# Altium footprint library NORDIC_Footprints.PcbLib: 3 footprints
Each footprint in its own frame and in the unit in brackets; x right, y up, seen from the top. Pads: shape width x height; smd on the part's side, far side on the other; paste and mask are expansions set on the pad; w line width, h text height; cw(c..) or ccw(c..) is an arc to the next point about the centre after c.
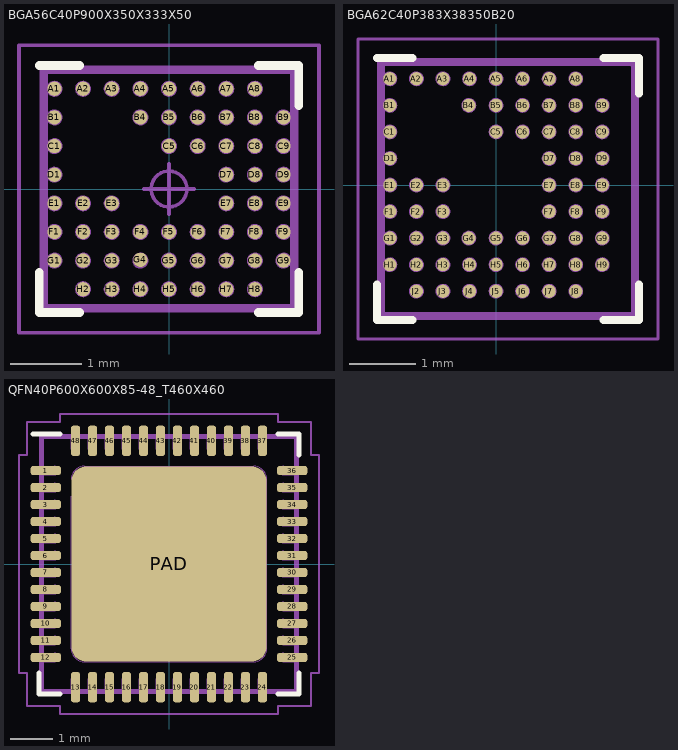
[diagram p0: the footprints below, top view; thin cyan lines are the x and y axes]

## BGA56C40P900X350X333X50 [mm] "IPC-7351C CDAB WLCSP"
height 50
pads (56):
  round 0.2 smd: A1(-1.6,1.4) A2(-1.2,1.4) A3(-0.8,1.4) A4(-0.4,1.4) A5(0,1.4) A6(0.4,1.4) A7(0.8,1.4) A8(1.2,1.4) B1(-1.6,1) B4(-0.4,1) B5(0,1) B6(0.4,1) B7(0.8,1) B8(1.2,1) B9(1.6,1) C1(-1.6,0.6) C5(0,0.6) C6(0.4,0.6) C7(0.8,0.6) C8(1.2,0.6) C9(1.6,0.6) D1(-1.6,0.2) D7(0.8,0.2) D8(1.2,0.2) D9(1.6,0.2) E1(-1.6,-0.2) E2(-1.2,-0.2) E3(-0.8,-0.2) E7(0.8,-0.2) E8(1.2,-0.2) E9(1.6,-0.2) F1(-1.6,-0.6) F2(-1.2,-0.6) F3(-0.8,-0.6) F4(-0.4,-0.6) F5(0,-0.6) F6(0.4,-0.6) F7(0.8,-0.6) F8(1.2,-0.6) F9(1.6,-0.6) G1(-1.6,-1) G2(-1.2,-1) G3(-0.8,-1) G4(-0.4,-0.99) G5(0,-1) G6(0.4,-1) G7(0.8,-1) G8(1.2,-1) G9(1.6,-1) H2(-1.2,-1.4) H3(-0.8,-1.4) H4(-0.4,-1.4) H5(0,-1.4) H6(0.4,-1.4) H7(0.8,-1.4) H8(1.2,-1.4)
Top Overlay:
  lines w0.12: -1.81,-1.16 -1.81,-1.725 -1.245,-1.725 ; -1.81,1.725 -1.245,1.725 ; 1.245,-1.725 1.81,-1.725 1.81,-1.16 ; 1.245,1.725 1.81,1.725 1.81,1.16
Mechanical 11:
  lines w0.12: -1.75,1.65 -1.725,1.675 ; 1.725,1.675 1.75,1.65 ; 1.75,-1.665 -1.75,-1.665 -1.75,1.665 1.75,1.665 1.75,-1.665 ; 1.75,-1.665 1.75,-1.665
Mechanical 12:
  circle w0.025: c-0.8,-0.2 r0.1
  circle w0.025: c-1.2,-1 r0.1
  circle w0.025: c-1.2,-0.6 r0.1
  circle w0.025: c-1.2,-0.2 r0.1
  circle w0.025: c-0.8,-1 r0.1
  circle w0.025: c-0.8,-0.6 r0.1
  circle w0.025: c-0.4,-1 r0.1
  circle w0.025: c-0.4,-0.6 r0.1
  circle w0.025: c-0.4,1 r0.1
  circle w0.025: c0,-1 r0.1
  circle w0.025: c0,-0.6 r0.1
  circle w0.025: c0,0.6 r0.1
  circle w0.025: c0,1 r0.1
  circle w0.025: c0.4,-1 r0.1
  circle w0.025: c0.4,-0.6 r0.1
  circle w0.025: c0.4,0.6 r0.1
  circle w0.025: c0.4,1 r0.1
  circle w0.025: c0.8,-1 r0.1
  circle w0.025: c0.8,-0.6 r0.1
  circle w0.025: c0.8,-0.2 r0.1
  circle w0.025: c0.8,0.2 r0.1
  circle w0.025: c0.8,0.6 r0.1
  circle w0.025: c0.8,1 r0.1
  circle w0.025: c1.2,-1 r0.1
  circle w0.025: c1.2,-0.6 r0.1
  circle w0.025: c1.2,-0.2 r0.1
  circle w0.025: c1.2,0.2 r0.1
  circle w0.025: c1.2,0.6 r0.1
  circle w0.025: c1.2,1 r0.1
  circle w0.025: c1.6,1 r0.1
  circle w0.025: c1.6,0.6 r0.1
  circle w0.025: c1.6,0.2 r0.1
  circle w0.025: c1.6,-0.2 r0.1
  circle w0.025: c1.6,-0.6 r0.1
  circle w0.025: c1.6,-1 r0.1
  circle w0.025: c-1.6,1 r0.1
  circle w0.025: c-1.6,0.6 r0.1
  circle w0.025: c-1.6,0.2 r0.1
  circle w0.025: c-1.6,-0.2 r0.1
  circle w0.025: c-1.6,-0.6 r0.1
  circle w0.025: c-1.6,-1 r0.1
  circle w0.025: c1.2,1.4 r0.1
  circle w0.025: c0.8,1.4 r0.1
  circle w0.025: c0.4,1.4 r0.1
  circle w0.025: c0,1.4 r0.1
  circle w0.025: c-0.4,1.4 r0.1
  circle w0.025: c-0.8,1.4 r0.1
  circle w0.025: c-1.2,1.4 r0.1
  circle w0.025: c-1.2,-1.4 r0.1
  circle w0.025: c-0.8,-1.4 r0.1
  circle w0.025: c-0.4,-1.4 r0.1
  circle w0.025: c0,-1.4 r0.1
  circle w0.025: c0.4,-1.4 r0.1
  circle w0.025: c0.8,-1.4 r0.1
  circle w0.025: c1.2,-1.4 r0.1
  circle w0.025: c-1.6,1.4 r0.1
  lines w0.025: -1.75,-1.665 -1.75,1.665 1.75,1.665 1.75,-1.665 -1.75,-1.665
Mechanical 15:
  circle w0.05: c0,0 r0.25
  lines w0.05: -0.35,0 0.35,0 ; 0,-0.35 0,0.35 ; -2.095,-2.01 2.095,-2.01 2.095,2.01 -2.095,2.01 -2.095,-2.01
Mechanical 16:
  text "'.Designator'" at 0,0 h1.2

## BGA62C40P383X38350B20 [mm] "IPC-7351C CFAC WLCSP package"
height 50
pads (62):
  round 0.2 smd: A1(-1.6,1.6) A2(-1.2,1.6) A3(-0.8,1.6) A4(-0.4,1.6) A5(0,1.6) A6(0.4,1.6) A7(0.8,1.6) A8(1.2,1.6) B1(-1.6,1.2) B4(-0.41,1.2) B5(0,1.2) B6(0.4,1.2) B7(0.8,1.2) B8(1.2,1.2) B9(1.6,1.2) C1(-1.6,0.8) C5(0,0.8) C6(0.4,0.8) C7(0.8,0.8) C8(1.2,0.8) C9(1.6,0.8) D1(-1.6,0.4) D7(0.8,0.4) D8(1.2,0.4) D9(1.6,0.4) E1(-1.6,0) E2(-1.2,0) E3(-0.8,0) E7(0.8,0) E8(1.2,0) E9(1.6,0) F1(-1.6,-0.4) F2(-1.2,-0.4) F3(-0.8,-0.4) F7(0.8,-0.4) F8(1.2,-0.4) F9(1.6,-0.4) G1(-1.6,-0.8) G2(-1.2,-0.8) G3(-0.8,-0.8) G4(-0.41,-0.8) G5(0,-0.8) G6(0.4,-0.8) G7(0.8,-0.8) G8(1.2,-0.8) G9(1.6,-0.8) H1(-1.6,-1.2) H2(-1.2,-1.2) H3(-0.8,-1.2) H4(-0.4,-1.2) H5(0,-1.2) H6(0.4,-1.2) H7(0.8,-1.2) H8(1.2,-1.2) H9(1.6,-1.2) J2(-1.2,-1.6) J3(-0.8,-1.6) J4(-0.4,-1.6) J5(0,-1.6) J6(0.4,-1.6) J7(0.8,-1.6) J8(1.2,-1.6)
Top Overlay:
  lines w0.12: -1.795,-1.5 -1.795,-2.035 -1.26,-2.035 ; -1.795,1.915 -1.26,1.915 ; 1.62,-2.035 2.155,-2.035 2.155,-1.5 ; 1.62,1.915 2.155,1.915 2.155,1.38
Mechanical 11:
  lines w0.12: 2.05,1.85 2.075,1.825 ; 2.075,-1.95 2.1,-1.975 ; -1.735,-1.975 -1.735,1.855 2.095,1.855 2.095,-1.975 -1.735,-1.975
Mechanical 12:
  circle w0.025: c1.6,-0.8 r0.1
  circle w0.025: c1.2,-0.8 r0.1
  circle w0.025: c0.8,-0.8 r0.1
  circle w0.025: c0.4,-0.8 r0.1
  circle w0.025: c0,-0.8 r0.1
  circle w0.025: c-0.41,-0.8 r0.1
  circle w0.025: c-0.8,-0.8 r0.1
  circle w0.025: c-1.2,-0.8 r0.1
  circle w0.025: c1.6,-1.2 r0.1
  circle w0.025: c1.2,-1.2 r0.1
  circle w0.025: c0.8,-1.2 r0.1
  circle w0.025: c0.4,-1.2 r0.1
  circle w0.025: c0,-1.2 r0.1
  circle w0.025: c-0.4,-1.2 r0.1
  circle w0.025: c-0.8,-1.2 r0.1
  circle w0.025: c-1.2,-1.2 r0.1
  circle w0.025: c1.6,0 r0.1
  circle w0.025: c1.2,0 r0.1
  circle w0.025: c0.8,0 r0.1
  circle w0.025: c-0.8,0 r0.1
  circle w0.025: c-1.2,0 r0.1
  circle w0.025: c1.6,-0.4 r0.1
  circle w0.025: c1.2,-0.4 r0.1
  circle w0.025: c0.8,-0.4 r0.1
  circle w0.025: c-0.8,-0.4 r0.1
  circle w0.025: c-1.2,-0.4 r0.1
  circle w0.025: c0.8,0.4 r0.1
  circle w0.025: c1.2,0.4 r0.1
  circle w0.025: c1.6,0.4 r0.1
  circle w0.025: c0,0.8 r0.1
  circle w0.025: c0.4,0.8 r0.1
  circle w0.025: c0.8,0.8 r0.1
  circle w0.025: c1.2,0.8 r0.1
  circle w0.025: c1.6,0.8 r0.1
  circle w0.025: c-0.41,1.2 r0.1
  circle w0.025: c0,1.2 r0.1
  circle w0.025: c0.4,1.2 r0.1
  circle w0.025: c0.8,1.2 r0.1
  circle w0.025: c1.2,1.2 r0.1
  circle w0.025: c1.6,1.2 r0.1
  circle w0.025: c-1.2,1.6 r0.1
  circle w0.025: c-0.8,1.6 r0.1
  circle w0.025: c-0.4,1.6 r0.1
  circle w0.025: c0,1.6 r0.1
  circle w0.025: c0.4,1.6 r0.1
  circle w0.025: c0.8,1.6 r0.1
  circle w0.025: c1.2,1.6 r0.1
  circle w0.025: c-1.6,-1.2 r0.1
  circle w0.025: c-1.6,-0.8 r0.1
  circle w0.025: c-1.6,-0.4 r0.1
  circle w0.025: c-1.6,0 r0.1
  circle w0.025: c-1.6,0.4 r0.1
  circle w0.025: c-1.6,0.8 r0.1
  circle w0.025: c-1.6,1.2 r0.1
  circle w0.025: c-1.6,1.6 r0.1
  circle w0.025: c1.2,-1.6 r0.1
  circle w0.025: c0.8,-1.6 r0.1
  circle w0.025: c0.4,-1.6 r0.1
  circle w0.025: c0,-1.6 r0.1
  circle w0.025: c-0.4,-1.6 r0.1
  circle w0.025: c-0.8,-1.6 r0.1
  circle w0.025: c-1.2,-1.6 r0.1
  lines w0.025: -1.735,-1.975 -1.735,1.855 2.095,1.855 2.095,-1.975 -1.735,-1.975
Mechanical 15:
  lines w0.05: -2.08,-2.32 -2.08,2.2 2.44,2.2 2.44,-2.32 -2.08,-2.32
Mechanical 16:
  text "'.Designator'" at 0,0 h1.2

## QFN40P600X600X85-48_T460X460 [mm] "IPC-7351C QFN48"
height 0.48
pads (49):
  rrect55% 0.71x0.22 smd: 1(-2.9,2.2) 2(-2.9,1.8) 3(-2.9,1.4) 4(-2.9,1) 5(-2.9,0.6) 6(-2.9,0.2) 7(-2.9,-0.2) 8(-2.9,-0.6) 9(-2.9,-1) 10(-2.9,-1.4) 11(-2.9,-1.8) 12(-2.9,-2.2) 25(2.9,-2.2) 26(2.9,-1.8) 27(2.9,-1.4) 28(2.9,-1) 29(2.9,-0.6) 30(2.9,-0.2) 31(2.9,0.2) 32(2.9,0.6) 33(2.9,1) 34(2.9,1.4) 35(2.9,1.8) 36(2.9,2.2)
  rrect55% 0.22x0.71 smd: 13(-2.2,-2.9) 14(-1.8,-2.9) 15(-1.4,-2.9) 16(-1,-2.9) 17(-0.6,-2.9) 18(-0.2,-2.9) 19(0.2,-2.9) 20(0.6,-2.9) 21(1,-2.9) 22(1.4,-2.9) 23(1.8,-2.9) 24(2.2,-2.9) 37(2.2,2.9) 38(1.8,2.9) 39(1.4,2.9) 40(1,2.9) 41(0.6,2.9) 42(0.2,2.9) 43(-0.2,2.9) 44(-0.6,2.9) 45(-1,2.9) 46(-1.4,2.9) 47(-1.8,2.9) 48(-2.2,2.9)
  rrect15% 4.6x4.6 smd paste-4.5: PAD(0,0)
Top Overlay:
  lines w0.12: -3.195,3.06 -2.57,3.06 ; -3.06,-2.57 -3.06,-3.06 -2.57,-3.06 ; 2.57,-3.06 3.06,-3.06 3.06,-2.57 ; 2.57,3.06 3.06,3.06 3.06,2.57
Top Paste:
  region: -0.33,0.33 -1.92,0.33 -1.92,1.92 -0.33,1.92
  region: -0.33,-1.92 -1.92,-1.92 -1.92,-0.33 -0.33,-0.33
  region: 1.92,0.33 0.33,0.33 0.33,1.92 1.92,1.92
  region: 1.92,-1.92 0.33,-1.92 0.33,-0.33 1.92,-0.33
Mechanical 11:
  lines w0.12: -2.975,-3.025 -3,-3 -3,3 3,3 3,-3 2.975,-3.025 ; -2.975,-3 2.975,-3
Mechanical 12:
  drawing of 157 lines, arcs and shapes, not listed
Mechanical 15:
  circle w0.05: c0,0 r0.25
  lines w0.05: -0.35,0 0.35,0 ; 0,-0.35 0,0.35 ; -3.531,-2.57 -3.531,2.57 -3.345,2.57 -3.345,3.345 -2.57,3.345 -2.57,3.531 2.57,3.531 2.57,3.345 3.345,3.345 3.345,2.57 3.531,2.57 3.531,-2.57 3.345,-2.57 3.345,-3.345 2.57,-3.345 2.57,-3.531 -2.57,-3.531 -2.57,-3.345 -3.345,-3.345 -3.345,-2.57 -3.531,-2.57
Mechanical 16:
  text "'.Designator'" at 0,0 h1.2
3D body "QFN49P40_600X600X90L40X20T450.STEP": height 0.9, standoff 0, extent -3.05,-3.05 3.05,3.05